# Altium schematic symbol library SCH - POWER - WURTH - DCDC-171050601.SCHLIB: 1 symbol
Pins are listed as number, name and electrical type; pins without a type are passive.

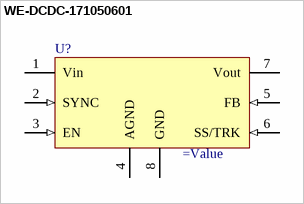
[diagram p0: symbol WE-DCDC-171050601]

## WE-DCDC-171050601
designator U?
DC/DC VIN = 6V-36V, 5A, VOUT = 0.8V-6V
pins: 1 Vin (power), 2 SYNC (in), 3 EN (in), 4 AGND (power), 5 FB (in), 6 SS/TRK (in), 7 Vout (power), 8 GND (power)